# EAGLE library part EN25Q80B (library Pocket_Beagle_Pinout)
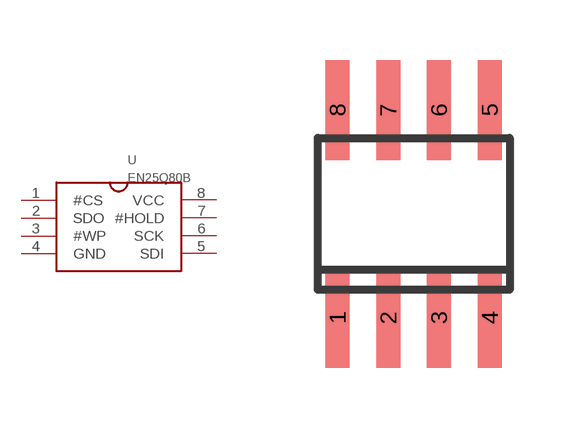
[diagram p9: symbol with the pads of SO8; footprint SO8]

Designator prefix U

## EN25Q80B  [SO8]
1  #CS
2  SDO
3  #WP
4  GND
5  SDI
6  SCK
7  #HOLD
8  VCC

## Footprint SO8 (pad centres in mm)
8-Lead Small Outline IC (SO-8) Source: http://www.analog.com/UploadedFiles/Data_Sheets/703465986AD8611_2_0.pdf
smd 0.6 x 2.5: 1 -0.635,-1.33; 2 0.635,-1.33; 3 1.905,-1.33; 4 3.175,-1.33; 5 3.175,3.87; 6 1.905,3.87; 7 0.635,3.87; 8 -0.635,3.87